# Altium footprint library 67997-402HLF.PcbLib: 1 footprints
Each footprint in its own frame and in the unit in brackets; x right, y up, seen from the top. Pads: shape width x height; smd on the part's side, far side on the other; paste and mask are expansions set on the pad; w line width, h text height; cw(c..) or ccw(c..) is an arc to the next point about the centre after c.
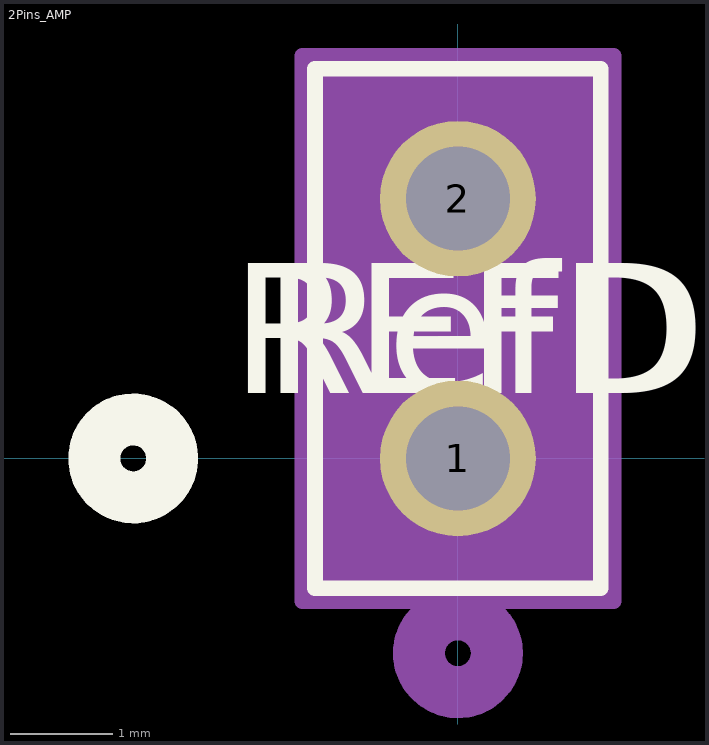
[diagram p0: the footprint, top view; thin cyan lines are the x and y axes]

## 2Pins_AMP [mil]
pads (2):
  round 60 hole 40 paste-30 mask+0: 1(0,0) 2(0,100)
Top Overlay:
  circle w20: c-125,0 r15
  lines w6: -55,-50 55,-50 55,150 -55,150 -55,-50
  text "RefDes" at -75,25 h50
  text "REFDES" at -87.5,25 h50
Bottom Overlay:
  circle w20: c-125,0 r15
Mechanical 13:
  circle w20: c0,-75 r15
  lines w1: -50,-45 50,-45 50,145 -50,145 -50,-45
  text "RefDes2" at -87.5,25 h50
Mechanical 15:
  region: 60,155 -60,155 -60,-55 60,-55
  lines w6: -60,-55 -60,155 60,155 60,-55 -60,-55